# Altium footprint library Library_pcb.PcbLib: 80 footprints (part 2 of 5)
Each footprint in its own frame and in the unit in brackets; x right, y up, seen from the top. Pads: shape width x height; smd on the part's side, far side on the other; paste and mask are expansions set on the pad; w line width, h text height; cw(c..) or ccw(c..) is an arc to the next point about the centre after c.
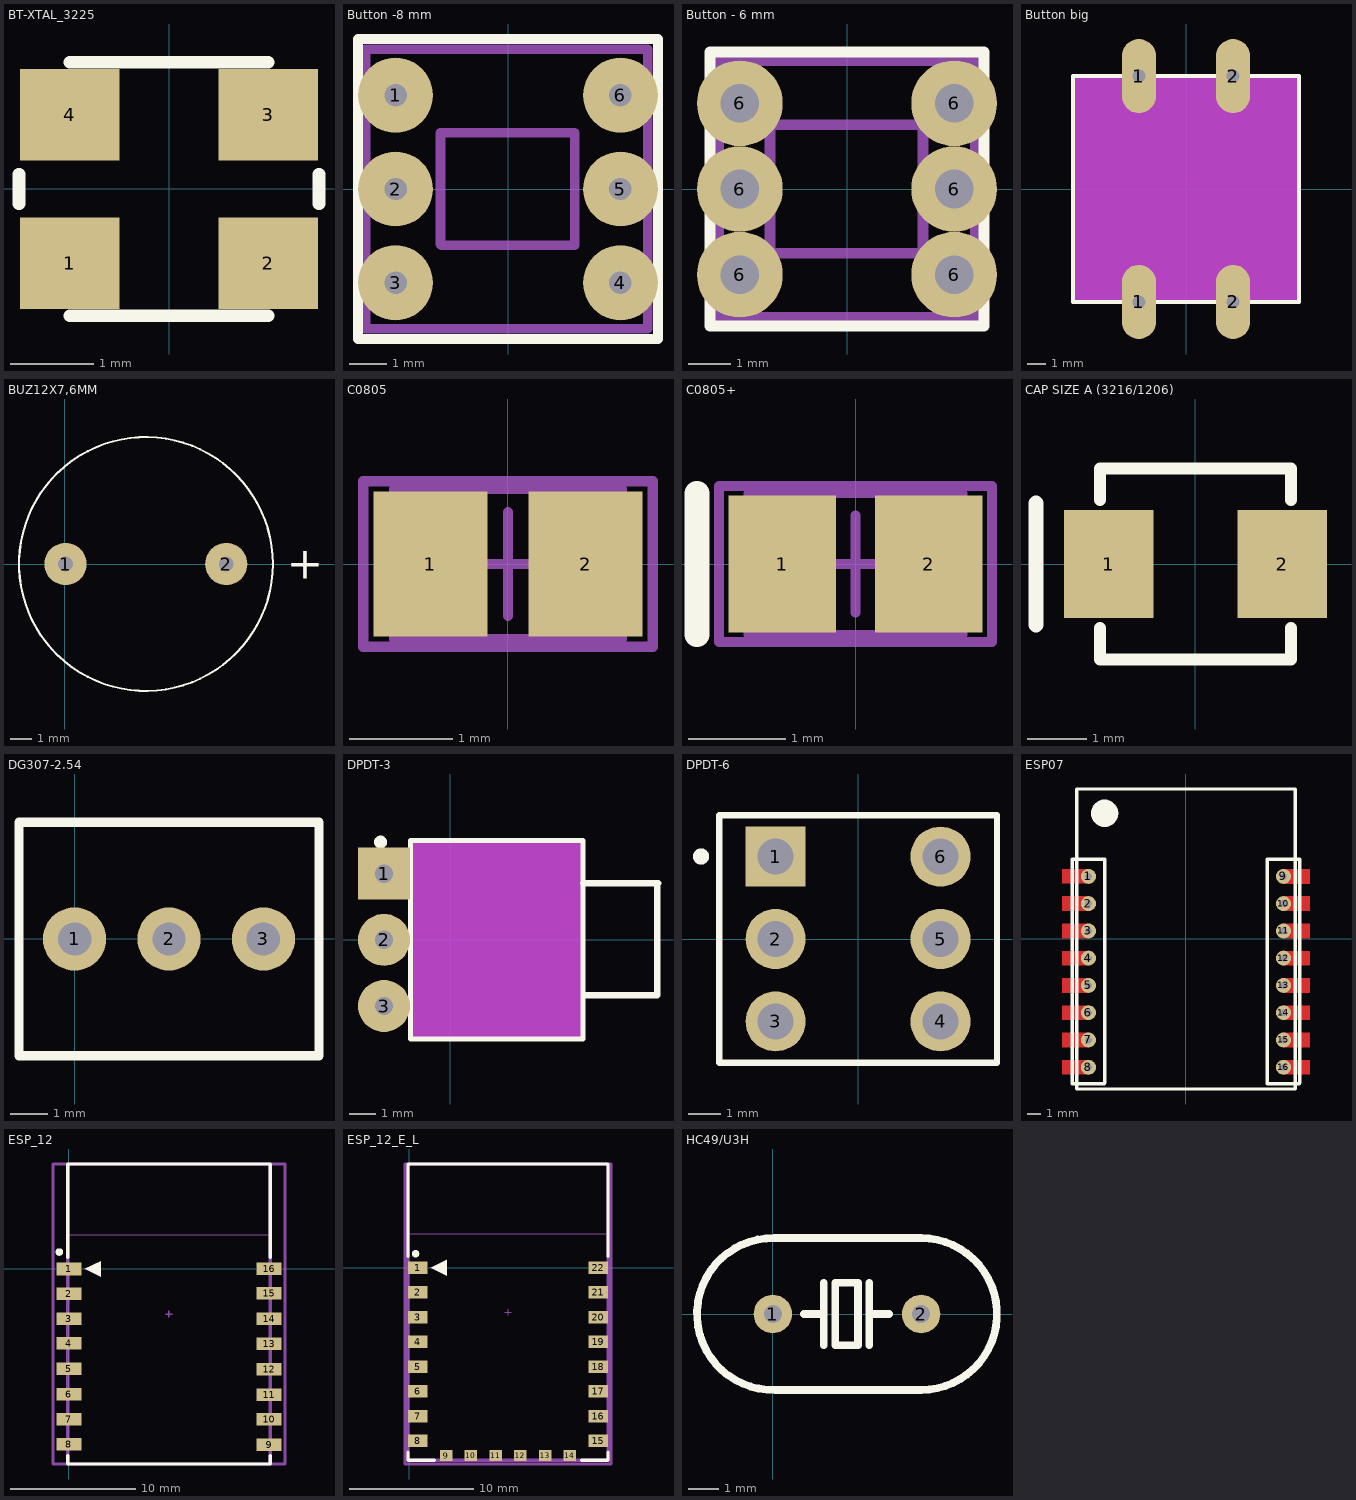
[diagram p1: the footprints below, top view; thin cyan lines are the x and y axes]

## BT-XTAL_3225 [mm]
pads (4):
  rect 1.2x1.1 smd: 1(-1.194,-0.89) 2(1.194,-0.89) 3(1.194,0.891) 4(-1.194,0.891)
Top Overlay:
  lines w0.152: -1.803,-0.178 -1.803,0.178 ; -1.194,-1.524 1.194,-1.524 ; -1.194,1.524 1.194,1.524 ; 1.803,-0.178 1.803,0.178
3D body: height 0.81, standoff 0.15, extent -1.4,-1.05 1.4,1.05
3D body "User Library-GeyerElectronics_KX7.step": height 0.81, standoff 0, extent -1.6,-1.25 1.614,1.25

## Button -8 mm [mm]
pads (6):
  round 2 hole 0.6: 1(-3,2.5) 2(-3,0) 3(-3,-2.5) 4(3,-2.5) 5(3,0) 6(3,2.5)
Top Overlay:
  lines w0.254: -4,-4 -4,4 4,4 4,-4 -4,-4
Mechanical 13:
  lines w0.254: -3.8,-3.725 3.725,-3.725 3.725,3.725 -3.8,3.725 -3.8,-3.725 ; -1.8,-1.475 -1.775,-1.5 1.775,-1.5 1.775,1.5 -1.8,1.5 -1.8,-1.475
3D body "Button with fixation.step": height 13, standoff -3.6, extent -4,-4 4,4

## Button - 6 mm [mm]
pads (6):
  round 2 hole 0.9: 6(-2.5,-2) 6(-2.5,0) 6(-2.5,2) 6(2.5,-2) 6(2.5,0) 6(2.5,2)
Top Overlay:
  lines w0.254: -3.2,-3.2 3.2,-3.2 3.2,3.2 -3.2,3.2 -3.2,-3.2
Mechanical 13:
  lines w0.254: -3,-3 -3,3 3,3 3,-3 -3,-3 ; -1.8,-1.475 -1.8,1.5 1.775,1.5 1.775,-1.5 -1.775,-1.5 -1.8,-1.475
3D body "User Library-button with fixation.STEP": height 13, standoff -3.6, extent -3.1,-3 2.9,3

## Button big [mm] "Switch; 4 Leads"
pads (4):
  oval 1.85x4 hole 0.7: 1(-2.54,-6.096) 1(-2.54,6.096) 2(2.54,-6.096) 2(2.54,6.096)
Top Overlay:
  lines w0.2: -6.096,-6.096 -6.096,6.096 6.096,6.096 6.096,-6.096 -6.096,-6.096
Mechanical 1 keep-out:
  region: -6.096,-6.096 -6.096,6.096 6.096,6.096 6.096,-6.096

## BUZ12X7,6MM [mm]
height 4
pads (2):
  round 2 hole 0.7: 1(0.04,0) 2(7.64,0)
Top Overlay:
  circle w0.1: c3.84,0 r6
  text "+" at 10.5,-0.7 h1.52
3D body "SW3dPS-WST-1203UX.STEP": height 9.75, standoff -4.4, extent -2.2,-6 13.254,6

## C0805 [mm]
pads (2):
  rect 1.1x1.4 smd: 1(-0.75,0) 2(0.75,0)
Mechanical 13:
  lines w0.1: -1.1,-0.725 -1.1,0.725 1.1,0.725 1.1,-0.725 -1.1,-0.725
Mechanical 15:
  lines w0.1: -0.5,0 0.5,0 ; 0,-0.5 0,0.5 ; -1.4,-0.8 -1.4,0.8 1.4,0.8 1.4,-0.8 -1.4,-0.8
3D body: height 1.4, standoff 0, extent -1.1,-0.725 1.1,0.725

## C0805+ [mm] "Polarity"
pads (2):
  rect 1.1x1.4 smd: 1(-0.75,0) 2(0.75,0)
Top Overlay:
  lines w0.254: -1.625,-0.725 -1.625,0.725
Mechanical 13:
  lines w0.1: -1.1,-0.725 1.1,-0.725 1.1,0.725 -1.1,0.725 -1.1,-0.725
Mechanical 15:
  lines w0.1: -0.5,0 0.5,0 ; 0,-0.5 0,0.5 ; -1.4,-0.8 1.4,-0.8 1.4,0.8 -1.4,0.8 -1.4,-0.8
3D body: height 1.4, standoff 0, extent -1.1,-0.725 1.1,0.725

## CAP SIZE A (3216/1206) [mm]
pads (2):
  rect 1.5x1.8 smd: 1(-1.45,0) 2(1.45,0)
Top Overlay:
  lines w0.2: -1.6,-1.067 -1.6,-1.6 1.6,-1.6 1.6,-1.067 ; -1.6,1.067 -1.6,1.6 1.6,1.6 1.6,1.067
  lines w0.254: -2.667,-1.016 -2.667,1.016

## DG307-2.54 [mm]
pads (3):
  round 1.7 hole 0.9: 1(0,0) 2(2.54,0) 3(5.08,0)
Top Overlay:
  lines w0.254: -1.495,-3.14 6.575,-3.14 6.575,3.14 -1.495,3.14 -1.495,-3.14

## DPDT-3 [mm] "Switch; 3 Leads"
pads (3):
  rect 2x2 hole 0.7: 1(-2.54,2.54)
  round 2 hole 0.7: 2(-2.54,0) 3(-2.54,-2.54)
Top Overlay:
  circle w0.25: c-2.675,3.75 r0.125
  lines w0.2: -1.525,-3.81 5.1,-3.81 5.1,3.81 -1.525,3.81 -1.525,-3.81
  lines w0.254: 5.1,2.175 7.975,2.175 7.95,2.15 7.95,-2.125 ; 5.175,-2.125 7.95,-2.125 ; 7.95,-2.125 7.95,-2.125
Mechanical 1 keep-out:
  region: -1.525,-3.81 5.1,-3.81 5.1,3.81 -1.525,3.81

## DPDT-6 [mm] "Switch; 6 Leads"
pads (6):
  rect 1.85x1.85 hole 1.1: 1(-2.54,2.54)
  round 1.85 hole 1.1: 2(-2.54,0) 3(-2.54,-2.54) 4(2.54,-2.54) 5(2.54,0) 6(2.54,2.54)
Top Overlay:
  circle w0.25: c-4.836,2.541 r0.125
  lines w0.2: -4.28,-3.81 4.28,-3.81 4.28,3.81 -4.28,3.81 -4.28,-3.81

## ESP07 [mm]
pads (16):
  round 1.1 hole 0.5: 1(-7.15,4.594) 2(-7.15,2.594) 3(-7.15,0.594) 4(-7.15,-1.406) 5(-7.15,-3.406) 6(-7.15,-5.406) 7(-7.15,-7.406) 8(-7.15,-9.406) 9(7.15,4.594) 10(7.15,2.594) 11(7.15,0.594) 12(7.15,-1.406) 13(7.15,-3.406) 14(7.15,-5.406) 15(7.15,-7.406) 16(7.15,-9.406)
Top Layer:
  rectangle: -9.076,4.053 -7.15,5.137
  rectangle: -9.076,2.053 -7.15,3.137
  rectangle: -9.076,0.053 -7.15,1.137
  rectangle: -9.076,-1.947 -7.15,-0.863
  rectangle: -9.076,-3.947 -7.15,-2.863
  rectangle: -9.076,-5.947 -7.15,-4.863
  rectangle: -9.076,-7.947 -7.15,-6.863
  rectangle: -9.076,-9.947 -7.15,-8.863
  region: 9.076,-8.865 7.15,-8.865 7.15,-9.949 9.076,-9.949
  region: 9.076,-6.865 7.15,-6.865 7.15,-7.949 9.076,-7.949
  region: 9.076,-4.865 7.15,-4.865 7.15,-5.949 9.076,-5.949
  region: 9.076,-2.865 7.15,-2.865 7.15,-3.949 9.076,-3.949
  region: 9.076,-0.865 7.15,-0.865 7.15,-1.949 9.076,-1.949
  region: 9.076,1.135 7.15,1.135 7.15,0.051 9.076,0.051
  region: 9.076,3.135 7.15,3.135 7.15,2.051 9.076,2.051
  region: 9.076,5.135 7.15,5.135 7.15,4.051 9.076,4.051
Bottom Layer:
  lines w0.3: 6.994,-7.356 7.444,-7.356
Top Overlay:
  lines w0.254: -8.351,4.596 -8.351,-10.607 -5.999,-10.607 -5.95,-10.558 -5.95,-8.206 -5.95,5.853 -8.35,5.853 -8.35,4.653 ; 5.949,4.596 5.949,-10.607 8.301,-10.607 ; 5.95,4.653 5.95,5.853 8.35,5.853 8.35,-8.206 8.35,-10.558 ; -8,-11 -8,11 8,11 8,-11 -8,-11
  lines w1: -5.468,9.222 cw(c-5.968,9.222) -5.468,9.232
Top Solder:
  region: 9.203,5.244 7.156,5.244 7.156,3.941 9.203,3.941
  region: 9.203,3.244 7.156,3.244 7.156,1.941 9.203,1.941
  region: 9.203,1.244 7.156,1.244 7.156,-0.059 9.203,-0.059
  region: 9.203,-0.756 7.156,-0.756 7.156,-2.059 9.203,-2.059
  region: 9.203,-2.756 7.156,-2.756 7.156,-4.059 9.203,-4.059
  region: 9.203,-4.756 7.156,-4.756 7.156,-6.059 9.203,-6.059
  region: 9.203,-6.756 7.156,-6.756 7.156,-8.059 9.203,-8.059
  region: 9.203,-8.756 7.156,-8.756 7.156,-10.059 9.203,-10.059
  rectangle: -9.203,-10.056 -7.156,-8.753
  rectangle: -9.203,-8.056 -7.156,-6.753
  rectangle: -9.203,-6.056 -7.156,-4.753
  rectangle: -9.203,-4.056 -7.156,-2.753
  rectangle: -9.203,-2.056 -7.156,-0.753
  rectangle: -9.203,-0.056 -7.156,1.247
  rectangle: -9.203,1.944 -7.156,3.247
  rectangle: -9.203,3.944 -7.156,5.247

## ESP_12 [mm] "ESP-12 Wi-Fi Module by AI-Thinker"
pads (16):
  rect 2x1 smd: 1(0,0) 2(0,-1.97) 3(0,-3.97) 4(0,-5.94) 5(0,-7.98) 6(0,-9.99) 7(0,-11.98) 8(0,-13.99) 9(16,-14.03) 10(16,-11.99) 11(16,-10.03) 12(16,-8.01) 13(16,-5.95) 14(16,-3.97) 15(16,-1.95) 16(16,0.03)
Top Overlay:
  circle w0.3: c-0.762,1.356 r0.15
  region: 1.27,0 2.54,-0.635 2.54,0.635
  lines w0.254: -0.084,-14.916 -0.084,-15.568 16.084,-15.568 16.084,-14.916 ; -0.084,0.916 -0.084,8.371 16.084,8.371 16.084,0.916
Mechanical 13:
  lines w0.051: -0.127,2.727 -0.127,8.382 16.129,8.382 16.129,2.727 -0.127,2.727
  lines w0.254: -0.084,-15.568 16.084,-15.568 16.084,8.371 -0.084,8.371 -0.084,-15.568
  text "CUTOUT POLYGON" at 0.127,7.366 h0.25
  text "ANTENNA AREA" at 0.127,7.874 h0.25
Mechanical 15:
  lines w0.1: 7.746,-3.598 8.254,-3.598 ; 8,-3.852 8,-3.344
  lines w0.254: -1.27,-15.568 -1.27,8.371 17.272,8.371 17.272,-15.568 -1.27,-15.568
3D body "ESP_12_E.STEP": height 2.75, standoff 0.04, extent 0.001,-15.491 16.001,8.509

## ESP_12_E_L [mm] "ESP-12 Wi-Fi Module by AI-Thinker"
height 3.2
pads (22):
  rect 1.6x1 smd: 1(0.7,0) 2(0.7,-2) 3(0.7,-4) 4(0.7,-6) 5(0.7,-8) 6(0.7,-10) 7(0.7,-12) 8(0.7,-14) 15(15.3,-14) 16(15.3,-12) 17(15.3,-10) 18(15.3,-8) 19(15.3,-6) 20(15.3,-4) 21(15.3,-2) 22(15.3,0)
  rect 1x0.9 smd: 9(3,-15.2) 10(5,-15.2) 11(7,-15.2) 12(9,-15.2) 13(11,-15.2) 14(13,-15.2)
Top Overlay:
  circle w0.3: c0.525,1.125 r0.15
  region: 1.77,0 3.04,-0.635 3.04,0.635
  lines w0.254: -0.084,-14.916 -0.084,-15.568 2.068,-15.568 ; -0.084,0.916 -0.084,8.371 16.084,8.371 16.084,0.916 ; 13.932,-15.568 16.084,-15.568 16.084,-14.916
Mechanical 13:
  lines w0.051: -0.127,2.727 -0.127,8.382 16.129,8.382 16.129,2.727 -0.127,2.727
  lines w0.254: -0.084,-15.568 16.084,-15.568 16.084,8.371 -0.084,8.371 -0.084,-15.568
  text "CUTOUT POLYGON" at 1.499,7.315 h0.25
  text "ANTENNA AREA" at 1.499,7.823 h0.25
Mechanical 15:
  lines w0.1: 7.746,-3.598 8.254,-3.598 ; 8,-3.852 8,-3.344
  lines w0.254: -0.325,-15.875 -0.325,8.371 16.325,8.371 16.325,-15.875 -0.325,-15.875
3D body "ESP_12_E.STEP": height 2.75, standoff 0.04, extent 0.001,-15.491 16.001,8.509

## FPV TX5823 [mm]
3D body "FPV.STEP": height 0, standoff -3, extent -11,-9.5 11,9.5

## HC49/U3H [mm]
pads (2):
  round 1.27 hole 0.6: 1(0,0) 2(4.88,0)
Top Overlay:
  lines w0.254: 0.05,2.5 ccw(c0,0) 0.075,-2.499 ; 0.05,2.5 4.875,2.5 cw(c4.88,0) 4.875,-2.5 0.075,-2.5 ; 1.025,0 1.675,0 ; 1.675,-1.025 1.675,0 ; 1.675,1.025 1.675,0 ; 2.8,1 2.8,-1.025 2.05,-1.025 2.05,1.025 2.8,1.025 ; 3.175,-1.025 3.175,0 ; 3.175,1.025 3.175,0 ; 3.825,0 3.175,0